# EAGLE library part LEDBAR (library LEDBar)
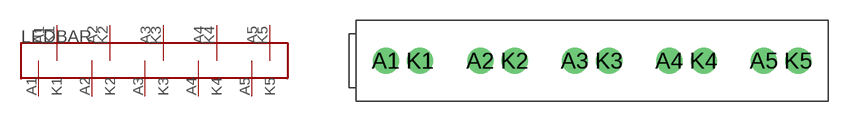
[diagram p0: symbol with the pads of LEDBAR; footprint LEDBAR]

Designator prefix -

## LEDBAR  [LEDBAR]
A1  A1
A2  A2
A3  A3
A4  A4
A5  A5
K1  K1
K2  K2
K3  K3
K4  K4
K5  K5

## Footprint LEDBAR (pad centres in mm)
drill 1 pad 1.93: A1 -11.74,0.62; A2 -4.74,0.62; A3 2.26,0.62; A4 9.26,0.62; A5 16.26,0.62; K1 -9.2,0.62; K2 -2.2,0.62; K3 4.8,0.62; K4 11.8,0.62; K5 18.8,0.62